# EAGLE library part 85C* (library microchip)
Serial EEPROM 1 K/2 K/4 K, 5.0 V, CMOS 85C72/82/92
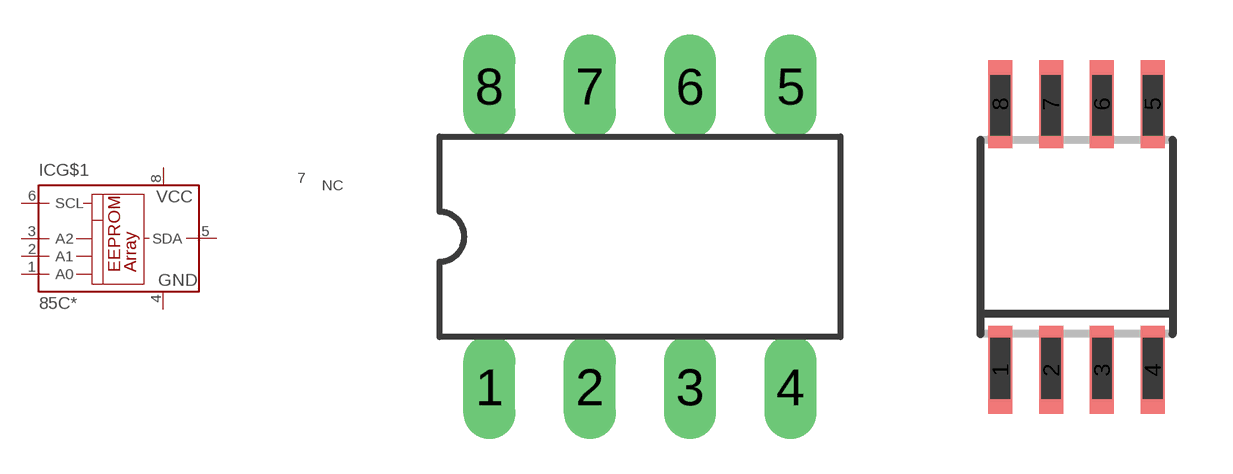
[diagram p43: symbol with the pads of DIL8; footprints DIL8, SO-08M]

Designator prefix IC; gates G$1=85C72 7=NC

## 85C72P (OC_FARNELL: unknown; OC_NEWARK: unknown), 85C82P (OC_FARNELL: unknown; OC_NEWARK: unknown), 85C92P (OC_FARNELL: unknown; OC_NEWARK: unknown)  [DIL8]
1  G$1:A0  in
2  G$1:A1  in
3  G$1:A2  in
4  G$1:GND  pwr
5  G$1:SDA  hiz
6  G$1:SCL  in
7  7:NC  nc
8  G$1:VCC  pwr

## 85CSM (OC_FARNELL: unknown; OC_NEWARK: unknown), 85C72SM (OC_FARNELL: unknown; OC_NEWARK: unknown), 85C82SM (OC_FARNELL: unknown; OC_NEWARK: unknown), 85C92SM (OC_FARNELL: unknown; OC_NEWARK: unknown)  [SO-08M]
Pads as for DIL8

## Footprint DIL8 (pad centres in mm)
Dual In Line package type P
drill 0.813 long: 1 -3.81,-3.81; 2 -1.27,-3.81; 3 1.27,-3.81; 4 3.81,-3.81; 5 3.81,3.81; 6 1.27,3.81; 7 -1.27,3.81; 8 -3.81,3.81

## Footprint SO-08M (pad centres in mm)
Small Outline Medium Plastic Gull Wing 207-mil body, package type SM
smd 0.6 x 2.2: 1 -1.905,-3.33; 2 -0.635,-3.33; 3 0.635,-3.33; 4 1.905,-3.33; 5 1.905,3.33; 6 0.635,3.33; 7 -0.635,3.33; 8 -1.905,3.33